# EAGLE library part LM74670 (library wheat)
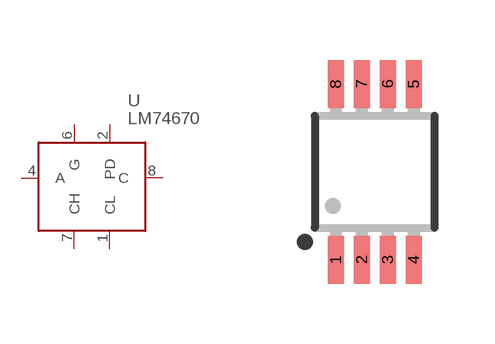
[diagram p261: symbol with the pads of VSSOP8; footprint VSSOP8]

Designator prefix U

## LM74670DGK  [VSSOP8]
1  CL
2  PD
4  A
6  G
7  CH
8  C

## Footprint VSSOP8 (pad centres in mm)
smd 0.4 x 1.2: 1 -0.975,-2.2; 2 -0.325,-2.2; 3 0.325,-2.2; 4 0.975,-2.2; 5 0.975,2.2; 6 0.325,2.2; 7 -0.325,2.2; 8 -0.975,2.2